# Altium footprint library Tool.PcbLib: 86 footprints (part 1 of 6)
Each footprint in its own frame and in the unit in brackets; x right, y up, seen from the top. Pads: shape width x height; smd on the part's side, far side on the other; paste and mask are expansions set on the pad; w line width, h text height; cw(c..) or ccw(c..) is an arc to the next point about the centre after c.
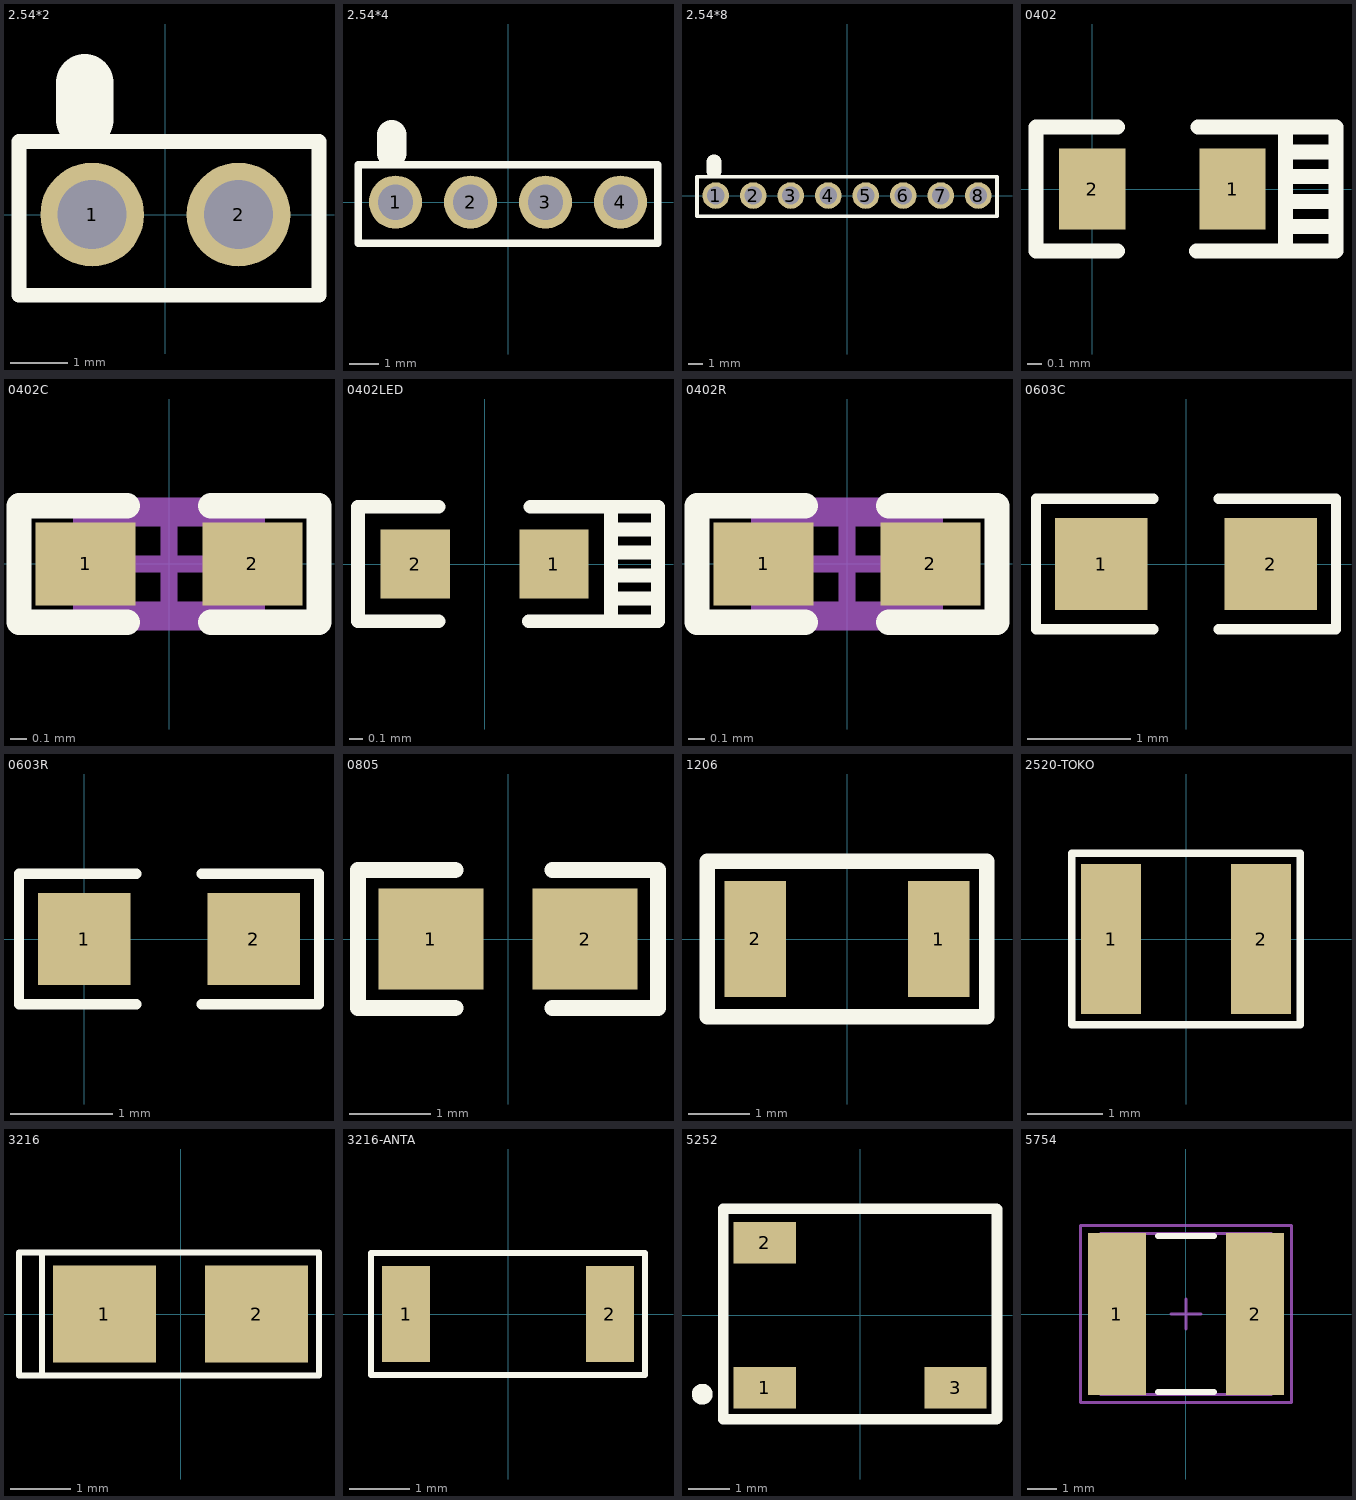
[diagram p0: the footprints below, top view; thin cyan lines are the x and y axes]

## 2.54*2 [mm]
pads (2):
  round 1.8 hole 1.2: 1(-1.27,0) 2(1.27,0)
Top Overlay:
  lines w0.254: -2.54,-1.397 -2.54,1.27 2.667,1.27 2.667,-1.397 -2.54,-1.397
  lines w1: -1.397,1.651 -1.397,2.286

## 2.54*4 [mm]
pads (4):
  round 1.8 hole 1.2: 1(-3.81,0) 2(-1.27,0) 3(1.27,0) 4(3.81,0)
Top Overlay:
  lines w0.254: -5.08,-1.397 -5.08,1.27 5.08,1.27 5.08,-1.397 -5.08,-1.397
  lines w1: -3.937,1.651 -3.937,2.286

## 2.54*8 [mm]
pads (8):
  round 1.8 hole 1.2: 1(-8.89,0) 2(-6.35,0) 3(-3.81,0) 4(-1.27,0) 5(1.27,0) 6(3.81,0) 7(6.35,0) 8(8.89,0)
Top Overlay:
  lines w0.254: -10.16,-1.397 -10.16,1.27 10.16,1.27 10.16,-1.397 -10.16,-1.397
  lines w1: -9.017,1.651 -9.017,2.286

## 0402 [mm]
pads (2):
  rect 0.45x0.55 smd: 1(0.95,0) 2(0,0)
Top Overlay:
  lines w0.102: 0.172,-0.419 -0.381,-0.419 -0.381,0.419 0.172,0.419 ; 0.705,-0.419 1.651,-0.419 1.651,0.419 0.717,0.419 ; 1.308,-0.419 1.308,0.419 ; 1.337,-0.253 1.651,-0.253 ; 1.337,-0.085 1.651,-0.085 ; 1.337,0.083 1.651,0.083 ; 1.337,0.251 1.651,0.251

## 0402C [mm]
pads (2):
  rect 0.6x0.5 smd: 1(-0.5,0) 2(0.5,0)
Top Overlay:
  lines w0.152: -0.25,-0.35 -0.9,-0.35 -0.9,0.35 -0.25,0.35 ; 0.25,-0.35 0.9,-0.35 0.9,0.35 0.25,0.35
Mechanical 13:
  lines w0.1: -0.525,-0.275 0.525,-0.275 0.525,0.275 -0.525,0.275 -0.525,-0.275
Mechanical 15:
  lines w0.1: -0.275,0 0.275,0 ; 0,-0.275 0,0.275 ; -0.9,-0.35 -0.9,0.35 0.9,0.35 0.9,-0.35 -0.9,-0.35
3D body: height 0.5, standoff -0.01, extent -0.508,-0.254 0.508,0.254

## 0402LED [mil]
pads (2):
  rect 20x20 smd: 1(20,0) 2(-20,0)
Top Overlay:
  lines w4: -13.25,-16.5 -36.5,-16.5 -36.5,16.5 -13.25,16.5 ; 12.75,-16.5 50,-16.5 50,16.5 13.25,16.5 ; 36.5,-16.5 36.5,16.5 ; 37.63,-9.96 50,-9.96 ; 37.63,-3.35 50,-3.35 ; 37.63,3.27 50,3.27 ; 37.63,9.9 50,9.9
3D body: height 15.75, standoff 0, extent -34,-14 34,14

## 0402R [mm]
pads (2):
  rect 0.6x0.5 smd: 1(-0.5,0) 2(0.5,0)
Top Overlay:
  lines w0.152: -0.25,-0.35 -0.9,-0.35 -0.9,0.35 -0.25,0.35 ; 0.25,-0.35 0.9,-0.35 0.9,0.35 0.25,0.35
Mechanical 13:
  lines w0.1: -0.525,-0.275 -0.525,0.275 0.525,0.275 0.525,-0.275 -0.525,-0.275
Mechanical 15:
  lines w0.1: -0.275,0 0.275,0 ; 0,-0.275 0,0.275 ; -0.9,-0.35 0.9,-0.35 0.9,0.35 -0.9,0.35 -0.9,-0.35
3D body: height 0.5, standoff -0.01, extent -0.508,-0.254 0.508,0.254

## 0603C [mm]
pads (2):
  rect 0.9x0.9 smd: 1(-0.826,0) 2(0.826,0)
Top Overlay:
  lines w0.102: -0.318,-0.635 -1.46,-0.635 -1.46,0.635 -0.318,0.635 ; 0.318,-0.635 1.46,-0.635 1.46,0.635 0.318,0.635
3D body: height 0.9, standoff 0, extent -1.377,-0.552 1.377,0.552

## 0603R [mm]
pads (2):
  rect 0.9x0.9 smd: 1(0,0) 2(1.651,0)
Top Overlay:
  lines w0.102: 0.508,-0.635 -0.635,-0.635 -0.635,0.635 0.508,0.635 ; 1.143,-0.635 2.286,-0.635 2.286,0.635 1.143,0.635
3D body: height 0.5, standoff 0, extent -0.552,-0.552 2.203,0.552

## 0805 [mm]
pads (2):
  rect 1.3x1.25 smd: 1(-0.95,0) 2(0.95,0)
Top Overlay:
  lines w0.2: -0.65,-0.85 -1.85,-0.85 -1.85,0.85 -0.65,0.85 ; 0.55,-0.85 1.85,-0.85 1.85,0.85 0.55,0.85
3D body: height 0.6, standoff 0, extent -1.702,-0.727 1.702,0.727

## 1206 [mm]
pads (2):
  rect 1x1.9 smd: 1(1.5,0) 2(-1.5,0)
Top Overlay:
  lines w0.254: -2.286,-1.27 2.286,-1.27 2.286,1.27 -2.286,1.27 -2.286,-1.27
3D body: height 1.4, standoff 0, extent -2.427,-1.202 2.475,1.202

## 2520-TOKO [mm]
pads (2):
  rect 0.8x2 smd: 1(-1,0) 2(1,0)
Top Overlay:
  lines w0.1: -1.524,-1.143 -1.524,1.143 1.524,1.143 1.524,-1.143 -1.524,-1.143

## 3216 [mm]
pads (2):
  rect 1.7x1.6 smd: 1(-1.256,0) 2(1.256,0)
Top Overlay:
  lines w0.1: -2.286,-1.016 -2.286,1.016 ; -2.667,-1.016 2.286,-1.016 2.286,1.016 -2.667,1.016 -2.667,-1.016
3D body: height 1.8, standoff 0, extent -1.718,-0.852 1.718,0.852

## 3216-ANTA [mm]
pads (2):
  rect 0.8x1.6 smd: 1(-1.7,0) 2(1.7,0)
Top Overlay:
  lines w0.1: -2.286,-1.016 2.286,-1.016 2.286,1.016 -2.286,1.016 -2.286,-1.016
3D body: height 1.8, standoff 0, extent -1.718,-0.852 1.718,0.852

## 5252 [mm]
pads (3):
  rect 1.5x1 smd: 1(-2.3,-1.75) 2(-2.3,1.75) 3(2.3,-1.75)
Top Overlay:
  circle w0.25: c-3.808,-1.905 r0.125
  lines w0.254: 3.3,2.5 3.3,-2.5 3.288,-2.512 -3.3,-2.512 -3.3,2.568 3.288,2.568 3.3,2.556

## 5754 [mm] "Chip Capacitor, 2-Leads, Body 5.5x5.2mm, IPC Medium Density"
height 1.8
pads (2):
  rect 1.95x5.45 smd: 1(-2.325,0) 2(2.325,0)
Top Overlay:
  lines w0.2: -0.95,-2.625 0.95,-2.625 ; -0.95,2.625 0.95,2.625
Mechanical 13:
  lines w0.1: -2.87,-2.715 2.87,-2.715 2.87,2.715 -2.87,2.715 -2.87,-2.715
Mechanical 15:
  lines w0.1: -0.5,0 0.5,0 ; 0,-0.5 0,0.5 ; -3.55,-2.975 3.55,-2.975 3.55,2.975 -3.55,2.975 -3.55,-2.975
3D body: height 1.8, standoff 0, extent -2.87,-2.715 2.87,2.715